# Altium footprint library ZYF_Connector.PcbLib: 39 footprints (part 3 of 3)
Each footprint in its own frame and in the unit in brackets; x right, y up, seen from the top. Pads: shape width x height; smd on the part's side, far side on the other; paste and mask are expansions set on the pad; w line width, h text height; cw(c..) or ccw(c..) is an arc to the next point about the centre after c.
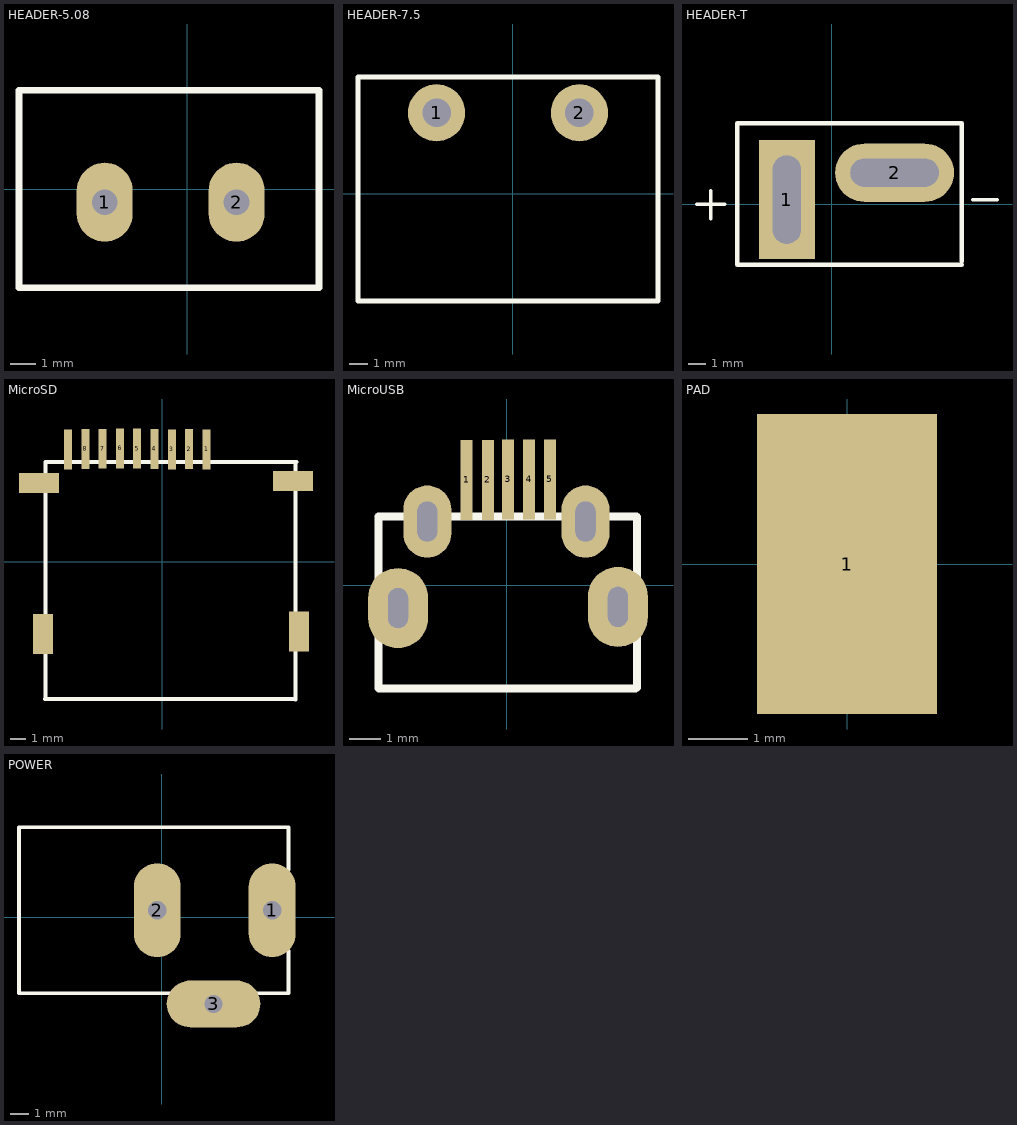
[diagram p2: the footprints below, top view; thin cyan lines are the x and y axes]

## HEADER-5.08 [mil]
pads (2):
  oval 85x120 hole 39: 1(-125,-20) 2(75,-20)
Top Overlay:
  lines w10: -255,-150 200,-150 200,150 -255,150 -255,-150
3D body: height 391.73, standoff -133.86, extent -250,-147.64 197.24,147.64

## HEADER-7.5 [mil]
pads (2):
  round 120 hole 60: 1(-160,170) 2(140,170)
Top Overlay:
  lines w10: -325,-225 -325,245 305,245 305,-225 -325,-225

## HEADER-T [mil]
pads (2):
  rect 125x265 hole 62.99 slot 196.85 at 90 deg: 1(-100,10)
  oval 265x130 hole 62.99 slot 196.85 at 0 deg: 2(140,70)
Top Overlay:
  lines w7.87: -300,0 -238,0 ; -269,-32 -269,30 ; 314,10 368,10
  lines w10: 290,-135 -55,-135 -210,-135 -210,180 290,180 290,-127
3D body: height 555.12, standoff -192.91, extent -211.22,-112.4 261.22,175

## MicroSD [mil]
pads (13):
  rect 20x100 smd: 1(111.5,282) 2(68,282.5) 3(25,282) 4(-19,283) 5(-62.5,284) 6(-105,284.5) 7(-149,283.5) 8(-192,283) ""(-235.5,282)
  rect 100x50 smd: ""(-308.5,197) ""(328.5,202)
  rect 50x100 smd: ""(-298,-180.5) ""(343.5,-175)
Top Overlay:
  lines w10: -293.5,-344.5 -291.5,-342.5 -291.5,250.5 336.5,250.5 334,248 334,-345.5 333,-344.5 -293.5,-344.5
3D body: height 72.83, standoff -23.62, extent -291.96,-349.39 337.96,251

## MicroUSB [mil]
pads (9):
  rect 15x100 smd: 1(-50,131.5) 2(-23.5,131.5) 3(2,132) 4(28,132) 5(54,132)
  oval 75x100 hole 25 slot 50 at 90 deg: ""(-135.5,-28.5) ""(139,-27)
  oval 60x90 hole 25 slot 50 at 90 deg: ""(-99,79.5) ""(98.5,79.5)
Top Overlay:
  lines w10: -160,-128.5 -160,85.5 162,85.5 162.5,85 162.5,-127.5 161,-129 -159.5,-129 -160,-128.5
3D body: height 108.07, standoff -21.85, extent -159.91,-128.44 162.92,85.34

## PAD [mil]
pads (1):
  rect 120x200 smd: 1(0,0)

## POWER [mil]
pads (3):
  oval 100x200 hole 39: 1(235,15) 2(-10,15)
  oval 200x100 hole 39: 3(110,-185)
Top Overlay:
  lines w7.87: 21.77,-162.17 -305,-162.17 -305,192.17 269.8,192.17 269.8,101.61 ; 195,-162.17 269.8,-162.17 269.8,-71.61